# Altium schematic symbol library MC_MechPart.SchLib: 1 symbol
Pins are listed as number, name and electrical type; pins without a type are passive.

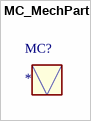
[diagram p0: symbol MC_MechPart]

## MC_MechPart
designator MC?